# Altium footprint library ic-sensor.PcbLib: 6 footprints
Each footprint in its own frame and in the unit in brackets; x right, y up, seen from the top. Pads: shape width x height; smd on the part's side, far side on the other; paste and mask are expansions set on the pad; w line width, h text height; cw(c..) or ccw(c..) is an arc to the next point about the centre after c.
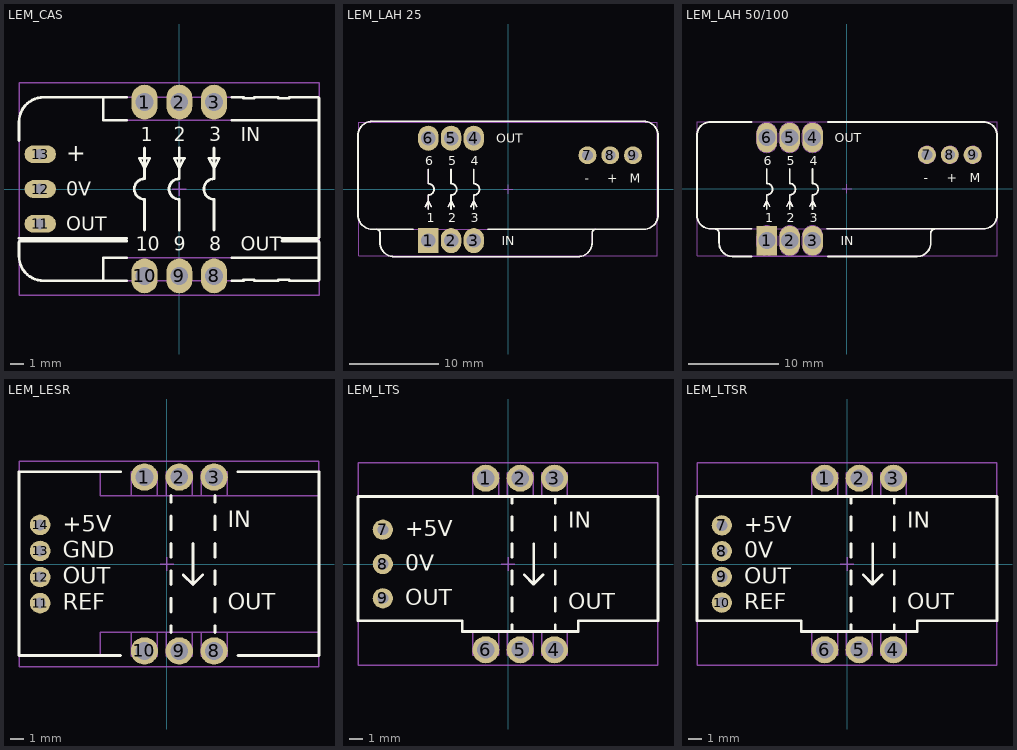
[diagram p0: the footprints below, top view; thin cyan lines are the x and y axes]

## LEM_CAS [mm] "LEM Current Transducer, Body 21.91x13.4mm"
height 16.5
pads (9):
  rrect100% 1.9x2.54 hole 1.3: 1(-2.54,6.35) 2(0,6.35) 3(2.54,6.35) 8(2.54,-6.35) 9(0,-6.35) 10(-2.54,-6.35)
  rrect100% 2.3x1.3 hole 0.8: 11(-10.16,-2.54) 12(-10.16,0) 13(-10.16,2.54)
Top Overlay:
  lines w0.2: -11.71,-3.6 -3.84,-3.6 ; -11.71,3.54 -11.71,4.9 cw(c-9.91,4.9) -9.91,6.7 -3.84,6.7 ; -11.26,-3.8 -11.26,-3.6 ; -5.55,-6.7 -5.55,-5.029 -3.84,-5.029 ; -5.55,6.7 -5.55,5.029 -3.84,5.029 ; -3.84,-6.7 -9.91,-6.7 cw(c-9.91,-4.9) -11.71,-4.9 -11.71,-3.9 cw(c-11.61,-3.9) -11.61,-3.8 -3.84,-3.8 ; -2.54,-3 -2.54,-0.75 cw(c-2.54,0) -2.54,0.75 -2.54,3 ; 0,-3 0,-0.75 cw(c0,0) 0,0.75 0,3 ; 2.54,-3 2.54,-0.75 cw(c2.54,0) 2.54,0.75 2.54,3 ; 3.84,-6.7 4.68,-6.7 4.68,-6.625 5.48,-6.625 5.48,-6.7 7.22,-6.7 7.22,-6.625 8.02,-6.625 8.02,-6.7 10.1,-6.7 ccw(c10.1,-6.6) 10.2,-6.6 10.2,-3.9 ccw(c10.1,-3.9) 10.1,-3.8 7.5,-3.8 ; 3.84,-5.029 10.2,-5.029 ; 3.84,5.029 10.2,5.029 ; 3.84,6.7 4.68,6.7 4.68,6.632 5.48,6.632 5.48,6.7 7.22,6.7 7.22,6.632 8.02,6.632 8.02,6.7 10.1,6.7 cw(c10.1,6.6) 10.2,6.6 10.2,-3.5 cw(c10.1,-3.5) 10.1,-3.6 7.5,-3.6 ; 9.75,-3.8 9.75,-3.6 ; -2.915,2.25 -2.165,2.25 -2.54,1.5 -2.915,2.25 ; -0.375,2.25 0.375,2.25 0,1.5 -0.375,2.25 ; 2.165,2.25 2.915,2.25 2.54,1.5 2.165,2.25
  text "3" at 2.2,3.5 h1
  text "2" at -0.4,3.5 h1
  text "1" at -2.8,3.5 h1
  text "8" at 2.2,-4.5 h1
  text "9" at -0.4,-4.5 h1
  text "10" at -3.2,-4.5 h1
  text "+" at -8.26,2.04 h1.25
  text "0V" at -8.26,-0.5 h1
  text "OUT" at -8.26,-3.04 h1
  text "IN" at 4.5,3.5 h1
  text "OUT" at 4.5,-4.5 h1
Mechanical 1:
  lines w0.1: -11.26,-3.8 -11.26,-3.6 ; -5.55,-6.7 -5.55,-5.029 10.2,-5.029 ; -5.55,6.7 -5.55,5.029 10.2,5.029 ; -3.84,-3.8 -11.61,-3.8 ccw(c-11.61,-3.9) -11.71,-3.9 -11.71,-4.9 ccw(c-9.91,-4.9) -9.91,-6.7 -2.94,-6.7 -2.94,-6.625 -2.14,-6.625 -2.14,-6.7 -0.4,-6.7 -0.4,-6.625 0.4,-6.625 0.4,-6.7 2.14,-6.7 2.14,-6.625 2.94,-6.625 2.94,-6.7 4.68,-6.7 4.68,-6.625 5.48,-6.625 5.48,-6.7 7.22,-6.7 7.22,-6.625 8.02,-6.625 8.02,-6.7 10.1,-6.7 ccw(c10.1,-6.6) 10.2,-6.6 10.2,-3.9 ccw(c10.1,-3.9) 10.1,-3.8 7.5,-3.8 ; -3.84,-3.6 -11.71,-3.6 -11.71,4.9 cw(c-9.91,4.9) -9.91,6.7 -2.94,6.7 -2.94,6.632 -2.14,6.632 -2.14,6.7 -0.4,6.7 -0.4,6.632 0.4,6.632 0.4,6.7 2.14,6.7 2.14,6.632 2.94,6.632 2.94,6.7 4.68,6.7 4.68,6.632 5.48,6.632 5.48,6.7 7.22,6.7 7.22,6.632 8.02,6.632 8.02,6.7 10.1,6.7 cw(c10.1,6.6) 10.2,6.6 10.2,-3.5 cw(c10.1,-3.5) 10.1,-3.6 7.5,-3.6 ; -2.94,-6.65 ccw(c-2.54,-6.35) -2.14,-6.65 ; -2.94,6.65 cw(c-2.54,6.35) -2.14,6.65 ; -2.54,-3 -2.54,-0.75 cw(c-2.54,0) -2.54,0.75 -2.54,3 ; -0.4,-6.65 ccw(c0,-6.35) 0.4,-6.65 ; -0.4,6.65 cw(c0,6.35) 0.4,6.65 ; 0,-3 0,-0.75 cw(c0,0) 0,0.75 0,3 ; 2.14,-6.65 ccw(c2.54,-6.35) 2.94,-6.65 ; 2.14,6.65 cw(c2.54,6.35) 2.94,6.65 ; 2.54,-3 2.54,-0.75 cw(c2.54,0) 2.54,0.75 2.54,3 ; 9.75,-3.8 9.75,-3.6 ; -2.915,2.25 -2.54,1.5 -2.165,2.25 -2.915,2.25 ; -0.375,2.25 0,1.5 0.375,2.25 -0.375,2.25 ; 2.165,2.25 2.54,1.5 2.915,2.25 2.165,2.25
  text "9" at -0.4,-4.5 h1
  text "10" at -3.2,-4.5 h1
  text "+" at -8.26,2.04 h1.25
  text "0V" at -8.26,-0.5 h1
  text "OUT" at -8.26,-3.04 h1
  text "1" at -2.8,3.5 h1
  text "2" at -0.4,3.5 h1
  text "8" at 2.2,-4.5 h1
  text "IN" at 4.5,3.5 h1
  text "OUT" at 4.5,-4.5 h1
  text "3" at 2.2,3.5 h1
Mechanical 15:
  lines w0.1: -0.5,0 0,0 ; 0,-0.5 0,0 ; 0,0.5 0,0 ; 0.5,0 0,0 ; -11.71,-7.769 10.2,-7.769 10.2,7.771 -11.71,7.771 -11.71,-7.769
3D body "LEM_CAS 25-NP.stp": height 16.5, standoff -3.5, extent -11.71,-6.849 10.2,6.85

## LEM_LAH 25 [mm] "LEM Current Transducer, Body 33.5X15.13mm (max)"
height 21.2
pads (9):
  rect 2.28x2.8 hole 1.6: 1(-8.9,-5.75)
  oval 2.28x2.8 hole 1.6: 2(-6.36,-5.75) 3(-3.82,-5.75) 4(-3.82,5.68) 5(-6.36,5.68) 6(-8.9,5.68)
  round 2 hole 1.2: 7(8.87,3.775) 8(11.41,3.775) 9(13.95,3.775)
Top Overlay:
  lines w0.2: -14.705,-4.49 cw(c-14.705,-4.89) -14.305,-4.89 -14.305,-5.955 ccw(c-12.705,-5.955) -12.705,-7.555 7.795,-7.555 ccw(c7.795,-5.955) 9.395,-5.955 9.395,-4.89 cw(c9.795,-4.89) 9.795,-4.49 ; -10.575,-4.49 -15.155,-4.49 cw(c-15.155,-2.89) -16.755,-2.89 -16.755,5.975 cw(c-15.155,5.975) -15.155,7.575 15.145,7.575 cw(c15.145,5.975) 16.745,5.975 16.745,-2.89 cw(c15.145,-2.89) 15.145,-4.49 -2.25,-4.49 ; -9.218,-1.94 -8.9,-1.305 -8.582,-1.94 ; -8.9,-2.257 -8.9,-0.67 ccw(c-8.9,-0.035) -8.9,0.6 -8.9,2.188 ; -6.677,-1.94 -6.36,-1.305 -6.042,-1.94 ; -6.36,-2.257 -6.36,-0.67 ccw(c-6.36,-0.035) -6.36,0.6 -6.36,2.188 ; -4.137,-1.94 -3.82,-1.305 -3.502,-1.94 ; -3.82,-2.257 -3.82,-0.67 ccw(c-3.82,-0.035) -3.82,0.6 -3.82,2.188
  text "IN" at -0.677,-6.25 h1.02
  text "OUT" at -1.343,5.18 h1.02
  text "3" at -4.153,-3.71 h1.02
  text "4" at -4.153,2.64 h1.02
  text "2" at -6.693,-3.71 h1.02
  text "5" at -6.693,2.64 h1.02
  text "1" at -9.067,-3.71 h1.02
  text "6" at -9.233,2.64 h1.02
  text "+" at 11.087,0.735 h1.02
  text "-" at 8.547,0.735 h1.02
  text "M" at 13.617,0.735 h1.02
Mechanical 1:
  lines w0.1: -14.705,-4.49 cw(c-14.705,-4.89) -14.305,-4.89 -14.305,-5.955 ccw(c-12.705,-5.955) -12.705,-7.555 7.795,-7.555 ccw(c7.795,-5.955) 9.395,-5.955 9.395,-4.89 cw(c9.795,-4.89) 9.795,-4.49 ; -9.218,-1.94 -8.9,-1.305 -8.582,-1.94 ; -8.9,-2.257 -8.9,-0.67 ccw(c-8.9,-0.035) -8.9,0.6 -8.9,2.188 ; -6.677,-1.94 -6.36,-1.305 -6.042,-1.94 ; -6.36,-2.257 -6.36,-0.67 ccw(c-6.36,-0.035) -6.36,0.6 -6.36,2.188 ; -4.137,-1.94 -3.82,-1.305 -3.502,-1.94 ; -3.82,-2.257 -3.82,-0.67 ccw(c-3.82,-0.035) -3.82,0.6 -3.82,2.188 ; -16.755,-2.89 ccw(c-15.155,-2.89) -15.155,-4.49 15.145,-4.49 ccw(c15.145,-2.89) 16.745,-2.89 16.745,5.975 ccw(c15.145,5.975) 15.145,7.575 -15.155,7.575 ccw(c-15.155,5.975) -16.755,5.975 -16.755,-2.89
  text "1" at -9.067,-3.71 h1.02
  text "6" at -9.233,2.64 h1.02
  text "2" at -6.693,-3.71 h1.02
  text "5" at -6.693,2.64 h1.02
  text "3" at -4.153,-3.71 h1.02
  text "4" at -4.153,2.64 h1.02
  text "IN" at -0.677,-6.25 h1.02
  text "OUT" at -1.343,5.18 h1.02
  text "-" at 8.547,0.735 h1.02
  text "+" at 11.087,0.735 h1.02
  text "M" at 13.617,0.735 h1.02
Mechanical 15:
  lines w0.1: -0.5,0 0,0 ; 0,-0.5 0,0 ; 0,0.5 0,0 ; 0.5,0 0,0 ; -16.654,-7.455 -16.654,7.475 16.65,7.475 16.65,-7.455 -16.654,-7.455
3D body "LEM_LAH 25-NP.stp": height 21, standoff -3.55, extent -16.655,-7.455 16.645,7.475

## LEM_LAH 50/100 [mm] "LEM Current Transducer, Body 33.4 x 15.13mm (max)"
height 21.35
pads (9):
  rect 2.28x3.3 hole 1.9: 1(-8.9,-5.765)
  oval 2.28x3.3 hole 1.9: 2(-6.36,-5.765) 3(-3.82,-5.765) 4(-3.82,5.665) 5(-6.36,5.665) 6(-8.9,5.665)
  round 2 hole 1.2: 7(8.87,3.76) 8(11.41,3.76) 9(13.95,3.76)
Top Overlay:
  lines w0.2: -10.575,-7.515 -12.074,-7.515 -12.7,-7.515 cw(c-12.7,-6.015) -14.2,-6.015 -14.2,-4.95 ccw(c-14.7,-4.95) -14.7,-4.45 ; -10.575,-4.45 -14.7,-4.45 ; -10.575,7.415 -15.15,7.415 ccw(c-15.15,5.915) -16.65,5.915 -16.65,-2.95 ccw(c-15.15,-2.95) -15.15,-4.45 -14.7,-4.45 ; -9.218,-1.955 -8.9,-1.32 -8.583,-1.955 ; -8.9,-2.272 -8.9,-0.685 ccw(c-8.9,-0.05) -8.9,0.585 -8.9,2.173 ; -6.678,-1.955 -6.36,-1.32 -6.043,-1.955 ; -6.36,-2.272 -6.36,-0.685 ccw(c-6.36,-0.05) -6.36,0.585 -6.36,2.173 ; -4.138,-1.955 -3.82,-1.32 -3.503,-1.955 ; -3.82,-2.272 -3.82,-0.685 ccw(c-3.82,-0.05) -3.82,0.585 -3.82,2.173 ; -2.25,-4.45 9.8,-4.45 ; -2.145,-7.515 7.8,-7.515 ccw(c7.8,-6.015) 9.3,-6.015 9.3,-4.95 cw(c9.8,-4.95) 9.8,-4.45 ; -2.145,7.415 15.15,7.415 cw(c15.15,5.915) 16.65,5.915 16.65,-2.95 cw(c15.15,-2.95) 15.15,-4.45 9.8,-4.45
  text "M" at 13.617,0.72 h1.02
  text "-" at 8.547,0.72 h1.02
  text "+" at 11.087,0.72 h1.02
  text "6" at -9.233,2.625 h1.02
  text "1" at -9.067,-3.725 h1.02
  text "5" at -6.693,2.625 h1.02
  text "2" at -6.693,-3.725 h1.02
  text "4" at -4.153,2.625 h1.02
  text "3" at -4.153,-3.725 h1.02
  text "OUT" at -1.343,5.165 h1.02
  text "IN" at -0.677,-6.265 h1.02
Mechanical 1:
  lines w0.1: -9.218,-1.955 -8.9,-1.32 -8.583,-1.955 ; -8.9,-2.272 -8.9,-0.685 ccw(c-8.9,-0.05) -8.9,0.585 -8.9,2.173 ; -6.678,-1.955 -6.36,-1.32 -6.043,-1.955 ; -6.36,-2.272 -6.36,-0.685 ccw(c-6.36,-0.05) -6.36,0.585 -6.36,2.173 ; -4.138,-1.955 -3.82,-1.32 -3.503,-1.955 ; -3.82,-2.272 -3.82,-0.685 ccw(c-3.82,-0.05) -3.82,0.585 -3.82,2.173 ; -14.7,-4.45 cw(c-14.7,-4.95) -14.2,-4.95 -14.2,-6.015 ccw(c-12.7,-6.015) -12.7,-7.515 -12.25,-7.515 -12.074,-7.524 5.15,-7.515 5.326,-7.524 7.174,-7.524 7.35,-7.515 7.8,-7.515 ccw(c7.8,-6.015) 9.3,-6.015 9.3,-4.95 cw(c9.8,-4.95) 9.8,-4.45 ; -14.7,-4.45 -15.15,-4.45 cw(c-15.15,-2.95) -16.65,-2.95 -16.65,5.915 cw(c-15.15,5.915) -15.15,7.415 15.15,7.415 cw(c15.15,5.915) 16.65,5.915 16.65,-2.95 cw(c15.15,-2.95) 15.15,-4.45 9.8,-4.45 ; -14.7,-4.45 9.8,-4.45
  text "1" at -9.067,-3.725 h1.02
  text "6" at -9.233,2.625 h1.02
  text "2" at -6.693,-3.725 h1.02
  text "5" at -6.693,2.625 h1.02
  text "3" at -4.153,-3.725 h1.02
  text "4" at -4.153,2.625 h1.02
  text "IN" at -0.677,-6.265 h1.02
  text "OUT" at -1.343,5.165 h1.02
  text "-" at 8.547,0.72 h1.02
  text "+" at 11.087,0.72 h1.02
  text "M" at 13.617,0.72 h1.02
Mechanical 8:
  circle w0.1: c13.96,3.76 r0.95
  circle w0.1: c13.96,3.76 r0.6
  circle w0.1: c11.42,3.76 r0.95
  circle w0.1: c11.42,3.76 r0.6
  circle w0.1: c8.88,3.76 r0.95
  circle w0.1: c8.88,3.76 r0.6
  circle w0.1: c-3.82,5.665 r0.95
  circle w0.1: c-6.36,5.665 r0.95
  circle w0.1: c-8.9,5.665 r0.95
  circle w0.1: c-3.82,-5.765 r0.95
  circle w0.1: c-6.36,-5.765 r0.95
  circle w0.1: c-8.9,-5.765 r0.95
  lines w0.1: -9.4,-5.765 -8.9,-5.765 ; -9.4,5.665 -8.9,5.665 ; -8.9,-6.265 -8.9,-5.765 ; -8.9,-5.265 -8.9,-5.765 ; -8.9,5.165 -8.9,5.665 ; -8.9,6.165 -8.9,5.665 ; -8.4,-5.765 -8.9,-5.765 ; -8.4,5.665 -8.9,5.665 ; -6.86,-5.765 -6.36,-5.765 ; -6.86,5.665 -6.36,5.665 ; -6.36,-6.265 -6.36,-5.765 ; -6.36,-5.265 -6.36,-5.765 ; -6.36,5.165 -6.36,5.665 ; -6.36,6.165 -6.36,5.665 ; -5.86,-5.765 -6.36,-5.765 ; -5.86,5.665 -6.36,5.665 ; -4.32,-5.765 -3.82,-5.765 ; -4.32,5.665 -3.82,5.665 ; -3.82,-6.265 -3.82,-5.765 ; -3.82,-5.265 -3.82,-5.765 ; -3.82,5.165 -3.82,5.665 ; -3.82,6.165 -3.82,5.665 ; -3.32,-5.765 -3.82,-5.765 ; -3.32,5.665 -3.82,5.665 ; 8.38,3.76 8.88,3.76 ; 8.88,3.26 8.88,3.76 ; 8.88,4.26 8.88,3.76 ; 9.38,3.76 8.88,3.76 ; 10.92,3.76 11.42,3.76 ; 11.42,3.26 11.42,3.76 ; 11.42,4.26 11.42,3.76 ; 11.92,3.76 11.42,3.76 ; 13.46,3.76 13.96,3.76 ; 13.96,3.26 13.96,3.76 ; 13.96,4.26 13.96,3.76 ; 14.46,3.76 13.96,3.76 ; -10.04,-6.275 ccw(c-8.9,-6.275) -7.76,-6.275 -7.76,-5.255 ccw(c-8.9,-5.255) -10.04,-5.255 -10.04,-6.275 ; -10.04,5.155 ccw(c-8.9,5.155) -7.76,5.155 -7.76,6.175 ccw(c-8.9,6.175) -10.04,6.175 -10.04,5.155 ; -7.5,-6.275 ccw(c-6.36,-6.275) -5.22,-6.275 -5.22,-5.255 ccw(c-6.36,-5.255) -7.5,-5.255 -7.5,-6.275 ; -7.5,5.155 ccw(c-6.36,5.155) -5.22,5.155 -5.22,6.175 ccw(c-6.36,6.175) -7.5,6.175 -7.5,5.155 ; -4.96,-6.275 ccw(c-3.82,-6.275) -2.68,-6.275 -2.68,-5.255 ccw(c-3.82,-5.255) -4.96,-5.255 -4.96,-6.275 ; -4.96,5.155 ccw(c-3.82,5.155) -2.68,5.155 -2.68,6.175 ccw(c-3.82,6.175) -4.96,6.175 -4.96,5.155
Mechanical 15:
  lines w0.1: -0.5,0 0,0 ; 0,-0.5 0,0 ; 0,0.5 0,0 ; 0.5,0 0,0 ; -16.65,-7.465 16.651,-7.465 16.651,7.46 -16.65,7.46 -16.65,-7.465
3D body "LEM_LAH 100-P.stp": height 21, standoff -3.5, extent -16.655,-7.47 16.645,7.46

## LEM_LESR [mm] "LEM Current Transducer, Body 22.2x10x24mm"
height 24.2
pads (10):
  round 2 hole 1.3: 1(-1.64,6.35) 2(0.9,6.35) 3(3.44,6.35) 8(3.44,-6.35) 9(0.9,-6.35) 10(-1.64,-6.35)
  round 1.5 hole 0.8: 11(-9.26,-2.858) 12(-9.26,-0.953) 13(-9.26,0.953) 14(-9.26,2.858)
Top Overlay:
  lines w0.2: -3.39,-6.675 -10.8,-6.675 -10.8,6.725 -3.39,6.725 ; 0.3,-5 0.3,-4.5 ; 0.3,-3.5 0.3,-2.5 ; 0.3,-1.5 0.3,-0.5 ; 0.3,0.5 0.3,1.5 ; 0.3,2.5 0.3,3.5 ; 0.3,4.5 0.3,5 ; 1.193,-0.793 1.9,-1.5 ; 1.9,1.5 1.9,-1.5 ; 2.607,-0.793 1.9,-1.5 ; 3.5,-5 3.5,-4.5 ; 3.5,-3.5 3.5,-2.5 ; 3.5,-1.5 3.5,-0.5 ; 3.5,0.5 3.5,1.5 ; 3.5,2.5 3.5,3.5 ; 3.5,4.5 3.5,5 ; 5.19,-6.675 11.1,-6.675 11.1,6.725 5.19,6.725
  text "IN" at 4.445,2.675 h1.2
  text "OUT" at 4.445,-3.358 h1.2
  text "REF" at -7.62,-3.358 h1.2
  text "GND" at -7.62,0.452 h1.2
  text "+5V" at -7.62,2.358 h1.2
  text "OUT" at -7.62,-1.453 h1.2
Mechanical 1:
  lines w0.1: -4.875,-5 -4.875,-6.675 -10.8,-6.675 -10.8,6.714 -4.868,6.714 -4.875,5 11.1,5 11.1,-4.975 -4.875,-4.975 ; -2.59,-5 -2.59,-6.75 -0.69,-6.75 -0.69,-5 ; -2.59,5 -2.59,6.75 -0.69,6.75 -0.69,5 ; -0.05,-5 -0.05,-6.75 1.85,-6.75 1.85,-5 ; -0.05,5 -0.05,6.75 1.85,6.75 1.85,5 ; 0.3,-5 0.3,-4.5 ; 0.3,-3.5 0.3,-2.5 ; 0.3,-1.5 0.3,-0.5 ; 0.3,0.5 0.3,1.5 ; 0.3,2.5 0.3,3.5 ; 0.3,4.5 0.3,5 ; 1.193,-0.793 1.9,-1.5 ; 1.9,1.5 1.9,-1.5 ; 2.49,-5 2.49,-6.75 4.39,-6.75 4.39,-5 ; 2.49,5 2.49,6.75 4.39,6.75 4.39,5 ; 2.607,-0.793 1.9,-1.5 ; 3.5,-5 3.5,-4.5 ; 3.5,-3.5 3.5,-2.5 ; 3.5,-1.5 3.5,-0.5 ; 3.5,0.5 3.5,1.5 ; 3.5,2.5 3.5,3.5 ; 3.5,4.5 3.5,5
  text "+5V" at -7.62,2.358 h1.2
  text "GND" at -7.62,0.452 h1.2
  text "OUT" at -7.62,-1.453 h1.2
  text "REF" at -7.62,-3.358 h1.2
  text "OUT" at 4.445,-3.358 h1.2
  text "IN" at 4.445,2.675 h1.2
Mechanical 15:
  lines w0.1: -0.5,0 0,0 ; 0,-0.5 0,0 ; 0,0.5 0,0 ; 0.5,0 0,0 ; -10.8,-7.5 11.1,-7.5 11.1,7.5 -10.8,7.5 -10.8,-7.5
3D body "LESR_90.O8.XX.000.0_20170323.stp": height 20.88, standoff -3.42, extent -10.8,-6.825 11.116,6.868

## LEM_LTS [mm] "LEM Current Transducer, Body 22.2x10x24mm"
height 24.2
pads (9):
  round 2 hole 1.3: 1(-1.64,6.35) 2(0.9,6.35) 3(3.44,6.35) 4(3.44,-6.35) 5(0.9,-6.35) 6(-1.64,-6.35)
  round 1.5 hole 0.8: 7(-9.26,2.54) 8(-9.26,0) 9(-9.26,-2.54)
Top Overlay:
  lines w0.2: 0.3,-5 0.3,-4.5 ; 0.3,-3.5 0.3,-2.5 ; 0.3,-1.5 0.3,-0.5 ; 0.3,0.5 0.3,1.5 ; 0.3,2.5 0.3,3.5 ; 0.3,4.5 0.3,5 ; 1.193,-0.793 1.9,-1.5 ; 1.9,1.5 1.9,-1.5 ; 2.607,-0.793 1.9,-1.5 ; 3.5,-5 3.5,-4.5 ; 3.5,-3.5 3.5,-2.5 ; 3.5,-1.5 3.5,-0.5 ; 3.5,0.5 3.5,1.5 ; 3.5,2.5 3.5,3.5 ; 3.5,4.5 3.5,5 ; -11.1,-4.2 -3.39,-4.2 -3.39,-5 5.19,-5 5.19,-4.2 11.1,-4.2 11.1,5 -11.1,5 -11.1,-4.2
  text "0V" at -7.62,-0.5 h1.2
  text "IN" at 4.445,2.675 h1.2
  text "OUT" at 4.445,-3.358 h1.2
  text "+5V" at -7.62,2.04 h1.2
  text "OUT" at -7.62,-3.04 h1.2
Mechanical 1:
  lines w0.1: -2.59,-5 -2.59,-6.75 -0.69,-6.75 -0.69,-5 ; -2.59,5 -2.59,6.75 -0.69,6.75 -0.69,5 ; -0.05,-5 -0.05,-6.75 1.85,-6.75 1.85,-5 ; -0.05,5 -0.05,6.75 1.85,6.75 1.85,5 ; 0.3,-5 0.3,-4.5 ; 0.3,-3.5 0.3,-2.5 ; 0.3,-1.5 0.3,-0.5 ; 0.3,0.5 0.3,1.5 ; 0.3,2.5 0.3,3.5 ; 0.3,4.5 0.3,5 ; 1.193,-0.793 1.9,-1.5 ; 1.9,1.5 1.9,-1.5 ; 2.49,-5 2.49,-6.75 4.39,-6.75 4.39,-5 ; 2.49,5 2.49,6.75 4.39,6.75 4.39,5 ; 2.607,-0.793 1.9,-1.5 ; 3.5,-5 3.5,-4.5 ; 3.5,-3.5 3.5,-2.5 ; 3.5,-1.5 3.5,-0.5 ; 3.5,0.5 3.5,1.5 ; 3.5,2.5 3.5,3.5 ; 3.5,4.5 3.5,5 ; -11.1,-4.2 -3.39,-4.2 -3.39,-5 5.19,-5 5.19,-4.2 11.1,-4.2 11.1,5 -11.1,5 -11.1,-4.2
  text "+5V" at -7.62,2.04 h1.2
  text "0V" at -7.62,-0.5 h1.2
  text "OUT" at -7.62,-3.04 h1.2
  text "OUT" at 4.445,-3.358 h1.2
  text "IN" at 4.445,2.675 h1.2
Mechanical 15:
  lines w0.1: -0.5,0 0,0 ; 0,-0.5 0,0 ; 0,0.5 0,0 ; 0.5,0 0,0 ; -11.1,-7.5 -11.1,7.5 11.1,7.5 11.1,-7.5 -11.1,-7.5
3D body "User Library-LTS6_NP.STEP": height 24, standoff -3.5, extent -11.1,-6.75 11.1,6.75

## LEM_LTSR [mm] "LEM Current Transducer, Body 22.2x10x24mm"
height 24.2
pads (10):
  round 2 hole 1.3: 1(-1.64,6.35) 2(0.9,6.35) 3(3.44,6.35) 4(3.44,-6.35) 5(0.9,-6.35) 6(-1.64,-6.35)
  round 1.5 hole 0.8: 7(-9.26,2.858) 8(-9.26,0.953) 9(-9.26,-0.953) 10(-9.26,-2.858)
Top Overlay:
  lines w0.2: 0.3,-5 0.3,-4.5 ; 0.3,-3.5 0.3,-2.5 ; 0.3,-1.5 0.3,-0.5 ; 0.3,0.5 0.3,1.5 ; 0.3,2.5 0.3,3.5 ; 0.3,4.5 0.3,5 ; 1.193,-0.793 1.9,-1.5 ; 1.9,1.5 1.9,-1.5 ; 2.607,-0.793 1.9,-1.5 ; 3.5,-5 3.5,-4.5 ; 3.5,-3.5 3.5,-2.5 ; 3.5,-1.5 3.5,-0.5 ; 3.5,0.5 3.5,1.5 ; 3.5,2.5 3.5,3.5 ; 3.5,4.5 3.5,5 ; -11.1,-4.2 -3.39,-4.2 -3.39,-5 5.19,-5 5.19,-4.2 11.1,-4.2 11.1,5 -11.1,5 -11.1,-4.2
  text "IN" at 4.445,2.675 h1.2
  text "OUT" at 4.445,-3.358 h1.2
  text "REF" at -7.62,-3.358 h1.2
  text "OUT" at -7.62,-1.453 h1.2
  text "0V" at -7.62,0.452 h1.2
  text "+5V" at -7.62,2.358 h1.2
Mechanical 1:
  lines w0.1: -2.59,-5 -2.59,-6.75 -0.69,-6.75 -0.69,-5 ; -2.59,5 -2.59,6.75 -0.69,6.75 -0.69,5 ; -0.05,-5 -0.05,-6.75 1.85,-6.75 1.85,-5 ; -0.05,5 -0.05,6.75 1.85,6.75 1.85,5 ; 0.3,-5 0.3,-4.5 ; 0.3,-3.5 0.3,-2.5 ; 0.3,-1.5 0.3,-0.5 ; 0.3,0.5 0.3,1.5 ; 0.3,2.5 0.3,3.5 ; 0.3,4.5 0.3,5 ; 1.193,-0.793 1.9,-1.5 ; 1.9,1.5 1.9,-1.5 ; 2.49,-5 2.49,-6.75 4.39,-6.75 4.39,-5 ; 2.49,5 2.49,6.75 4.39,6.75 4.39,5 ; 2.607,-0.793 1.9,-1.5 ; 3.5,-5 3.5,-4.5 ; 3.5,-3.5 3.5,-2.5 ; 3.5,-1.5 3.5,-0.5 ; 3.5,0.5 3.5,1.5 ; 3.5,2.5 3.5,3.5 ; 3.5,4.5 3.5,5 ; -11.1,-4.2 -3.39,-4.2 -3.39,-5 5.19,-5 5.19,-4.2 11.1,-4.2 11.1,5 -11.1,5 -11.1,-4.2
  text "+5V" at -7.62,2.358 h1.2
  text "0V" at -7.62,0.452 h1.2
  text "OUT" at -7.62,-1.453 h1.2
  text "REF" at -7.62,-3.358 h1.2
  text "OUT" at 4.445,-3.358 h1.2
  text "IN" at 4.445,2.675 h1.2
Mechanical 15:
  lines w0.1: -0.5,0 0,0 ; 0,-0.5 0,0 ; 0,0.5 0,0 ; 0.5,0 0,0 ; -11.1,-7.5 -11.1,7.5 11.1,7.5 11.1,-7.5 -11.1,-7.5
3D body "LEM_LTSR.stp": height 24.7, standoff -3.67, extent -11.1,-6.75 11.1,6.75